# EAGLE library part TPS54394 (library WarthogRobotics-IC-Power)
3A Dual Channel Synchronous Step-Down Switcher with Integrated FET
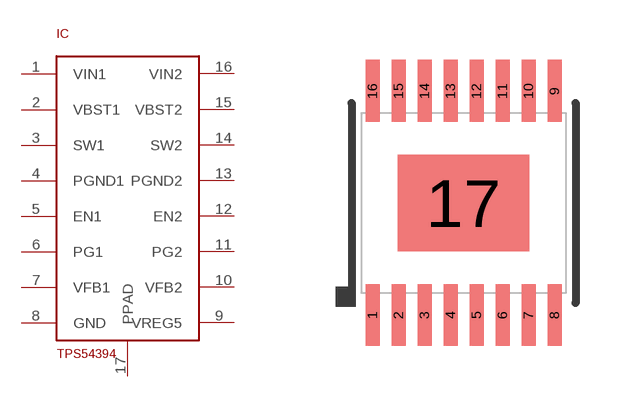
[diagram p0: symbol with the pads of HTSSOP16; footprint HTSSOP16]

Designator prefix IC

## TPS54394  [HTSSOP16]
1  VIN1
2  VBST1
3  SW1
4  PGND1
5  EN1
6  PG1
7  VFB1
8  GND
9  VREG5
10  VFB2
11  PG2
12  EN2
13  PGND2
14  SW2
15  VBST2
16  VIN2
17  PPAD

## Footprint HTSSOP16 (pad centres in mm)
HTSSOP16 PowerPAD (R-PDSO-G16) pitch 0.635 mm, body 4.5 mm x 5.1 mm
smd 0.35 x 1.55: 1 -2.275,-2.8; 2 -1.625,-2.8; 3 -0.975,-2.8; 4 -0.325,-2.8; 5 0.325,-2.8; 6 0.975,-2.8; 7 1.625,-2.8; 8 2.275,-2.8; 9 2.275,2.8; 10 1.625,2.8; 11 0.975,2.8; 12 0.325,2.8; 13 -0.325,2.8; 14 -0.975,2.8; 15 -1.625,2.8; 16 -2.275,2.8
smd 3.29 x 2.41: 17 0,0